# Altium footprint library XRCGB26M000F1H02R0.PcbLib: 1 footprints
Each footprint in its own frame and in the unit in brackets; x right, y up, seen from the top. Pads: shape width x height; smd on the part's side, far side on the other; paste and mask are expansions set on the pad; w line width, h text height; cw(c..) or ccw(c..) is an arc to the next point about the centre after c.
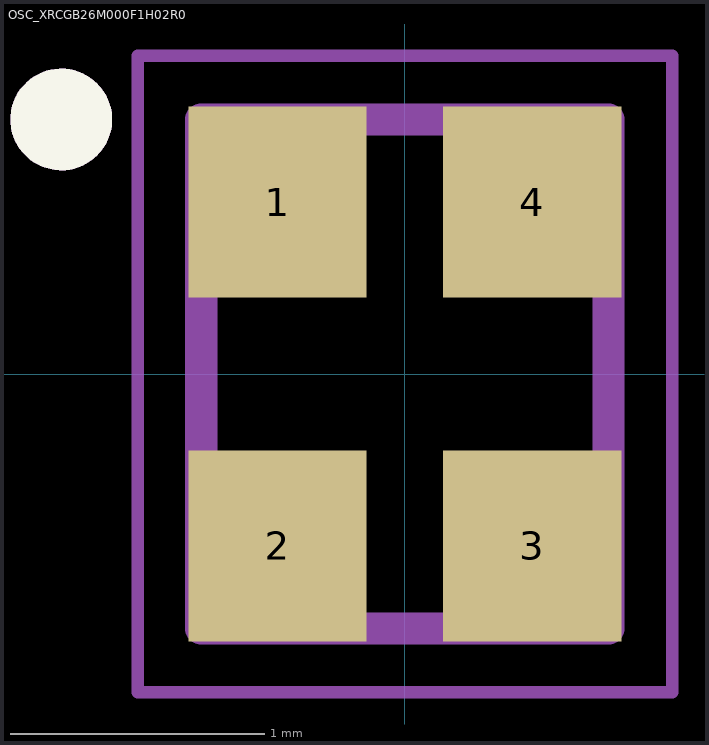
[diagram p0: the footprint, top view; thin cyan lines are the x and y axes]

## OSC_XRCGB26M000F1H02R0 [mm]
pads (4):
  rect 0.7x0.75 smd: 1(-0.5,0.675) 2(-0.5,-0.675) 3(0.5,-0.675) 4(0.5,0.675)
Top Overlay:
  circle w0.2: c-1.35,1 r0.1
Mechanical 13:
  circle w0.2: c-1.35,1 r0.1
  lines w0.127: -0.8,-1 -0.8,1 0.8,1 0.8,-1 -0.8,-1
Mechanical 15:
  lines w0.05: -1.05,-1.25 -1.05,1.25 1.05,1.25 1.05,-1.25 -1.05,-1.25
3D body "step_temp.STEP": height 0.7, standoff 0, extent -0.8,-1 0.8,1